# EAGLE library part ARDUINO_NANO_CONNECTOR (library TRANS_IRF3205SPBF)
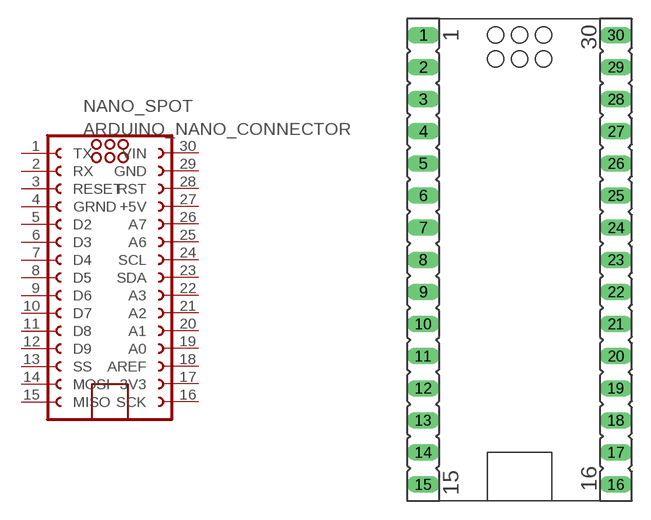
[diagram p1: symbol with the pads of ARDUINO_NANO_HEADER; footprint ARDUINO_NANO_HEADER]

Designator prefix NANO_SPOT

## ARDUINO_NANO_CONNECTOR  [ARDUINO_NANO_HEADER]
1  TX
2  RX
3  RESET
4  GRND  pwr
5  D2
6  D3
7  D4
8  D5
9  D6
10  D7
11  D8
12  D9
13  SS
14  MOSI
15  MISO
16  SCK
17  3V3  pwr
18  AREF
19  A0
20  A1
21  A2
22  A3
23  SDA  out
24  SCL  out
25  A6
26  A7
27  +5V  pwr
28  RST
29  GND  pwr
30  VIN  in

## Footprint ARDUINO_NANO_HEADER (pad centres in mm)
drill 0.813 long: 1 -7.62,19.05; 2 -7.62,16.51; 3 -7.62,13.97; 4 -7.62,11.43; 5 -7.62,8.89; 6 -7.62,6.35; 7 -7.62,3.81; 8 -7.62,1.27; 9 -7.62,-1.27; 10 -7.62,-3.81; 11 -7.62,-6.35; 12 -7.62,-8.89; 13 -7.62,-11.43; 14 -7.62,-13.97; 15 -7.62,-16.51; 16 7.62,-16.51; 17 7.62,-13.97; 18 7.62,-11.43; 19 7.62,-8.89; 20 7.62,-6.35; 21 7.62,-3.81; 22 7.62,-1.27; 23 7.62,1.27; 24 7.62,3.81; 25 7.62,6.35; 26 7.62,8.89; 27 7.62,11.43; 28 7.62,13.97; 29 7.62,16.51; 30 7.62,19.05